# Altium schematic symbol library w4mlib.SchLib: 119 symbols
Pins are listed as number, name and electrical type; pins without a type are passive.

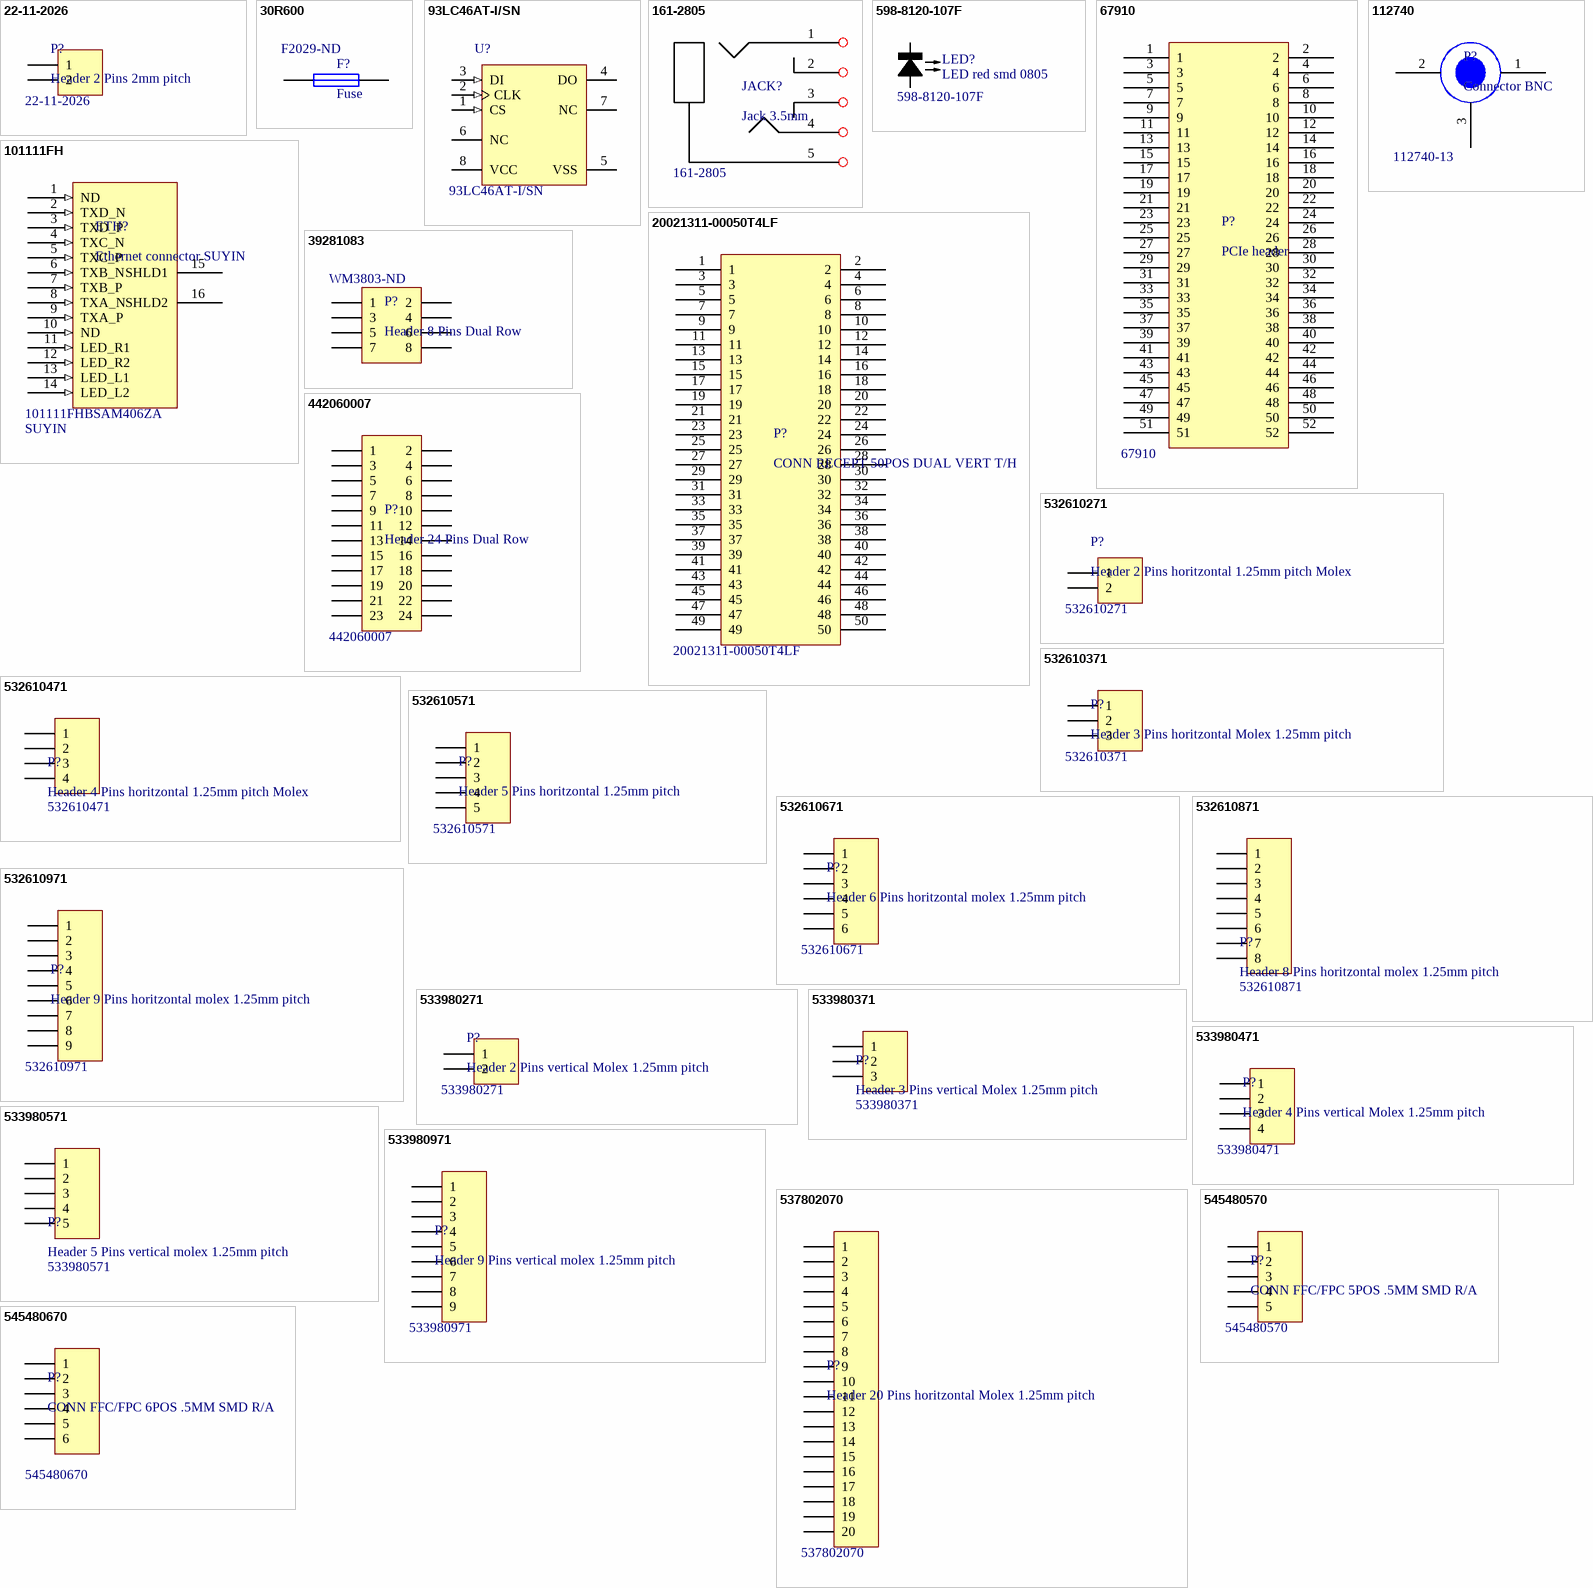
[diagram p0: symbols 22-11-2026 to 545480670]

## 22-11-2026
designator P?, comment Header 2 Pins 2mm pitch  Part Number: 22-11-2026
Supplier 1: Mouser; Supplier Part Number 1: 538-22-11-2026
footprint 22-11-2026 (header molex 2 pins)
pins: 1, 2

## 30R600
designator F?, comment Fuse  Supplier Part Number 1: F2029-ND
Supplier 1: Digi-Key
footprint Littelfuse 30R600 0.4
pins: 1, 2

## 93LC46AT-I/SN
designator U?  Part Number: 93LC46AT-I/SN
1K, 128x8-bit, 2.5V Microwire Serial EEPROM, 8-Pin SOIC 150mil, Industrial Temperature, Tape and Reel; Published: 29-Jan-2009; DatasheetVersion: revG, May-2008; PackageVersion: revAW, Oct-2008; PackageReference: SOIC-SN8; Publisher: Altium Limited; PackageDescription: 8-Lead Plastic Small Outline (SN) - Narrow, 3.90mm Body [SOIC]; Code_JEDEC: MS-012; Code_IPC: SOIC127P600-8; ComponentLink1Description: Manufacturer Link; ComponentLink1URL: http://www.microchip.com; ComponentLink2Description: Datasheet; ComponentLink2URL: http://ww1.microchip.com/downloads/en/DeviceDoc/21749G.pdf; ComponentLink3Description: Packaging Specification; ComponentLink3URL: http://ww1.microchip.com/downloads/en/PackagingSpec/00049AW.pdf; Supplier 1: Digi-Key; Supplier Part Number 1: 93LC46AT-I/SN-ND
footprint 93LC46AT-I/SN (SOIC, 8-Leads, Body 4.9x3.8mm, Pitch 1.27mm, IPC Medium Density)
pins: 1 CS (in), 2 CLK (in), 3 DI (in), 4 DO (hiz), 5 VSS (power), 6 NC, 7 NC, 8 VCC (power)

## 161-2805
designator JACK?, comment Jack 3.5mm  Part Number: 161-2805
Fabricant: Kobiconn; Supplier 1: Mouser; Supplier Part Number 1: 161-2805-E
footprint 161-2805-elfonanos (JACK 3.5mm pads reduits per elfonanos)
pins: 1, 2, 3, 4, 5

## 598-8120-107F
designator LED?, comment LED red smd 0805  Part Number: 598-8120-107F
Supplier 1: Digi-Key; Supplier Part Number 1: 350-2039-1-ND
footprint 598-8120-107F (LED red smd 0805)
pins: A, K

## 67910
designator P?, comment PCIe header  Part Number: 67910
Fabricant: Molex; Supplier 1: Mouser; Supplier Part Number 1: 538-67910-0002
footprint 67910 (header pci-e)
pins: 1, 2, 3, 4, 5, 6, 7, 8, 9, 10, 11, 12, 13, 14, 15, 16, 17, 18, 19, 20, 21, 22, 23, 24, 25, 26, 27, 28, 29, 30, 31, 32, 33, 34, 35, 36, 37, 38, 39, 40, 41, 42, 43, 44, 45, 46, 47, 48, 49, 50, 51, 52

## 101111FH
designator ETH?, comment Ethernet connector SUYIN  Part Number: 101111FHBSAM406ZA  Manufacturer 1: SUYIN
Fabricant: Suyin; Series: HBSAM406ZA
footprint 101111FH (Ethernet connector SUYIN)
pins: 1 ND (in), 2 TXD_N (in), 3 TXD_P (in), 4 TXC_N (in), 5 TXC_P (in), 6 TXB_N (in), 7 TXB_P (in), 8 TXA_N (in), 9 TXA_P (in), 10 ND (in), 11 LED_R1 (in), 12 LED_R2 (in), 13 LED_L1 (in), 14 LED_L2 (in), 15 SHLD1, 16 SHLD2

## 112740
designator P?, comment Connector BNC  Part Number: 112740-13
Manufacturer: Amphenol; Supplier 1: Digi-Key; Supplier Part Number 1: ACX1661-ND
footprint 112740 (Connector BNC)
pins: 1, 2, 3

## 20021311-00050T4LF
designator P?, comment CONN RECEPT 50POS DUAL VERT T/H  Part Number: 20021311-00050T4LF
Supplier 1: Digi-Key; Supplier Part Number 1: 609-3767-ND
footprint 20021311-00050T4LF (CONN RECEPT 50POS DUAL VERT T/H)
pins: 1, 2, 3, 4, 5, 6, 7, 8, 9, 10, 11, 12, 13, 14, 15, 16, 17, 18, 19, 20, 21, 22, 23, 24, 25, 26, 27, 28, 29, 30, 31, 32, 33, 34, 35, 36, 37, 38, 39, 40, 41, 42, 43, 44, 45, 46, 47, 48, 49, 50

## 39281083
designator P?, comment Header 8 Pins Dual Row  Supplier Part Number 1: WM3803-ND
Supplier 1: Digi-Key
footprint 39281083 (header molex 8 pins alimentacio base)
pins: 1, 2, 3, 4, 5, 6, 7, 8

## 442060007
designator P?, comment Header 24 Pins Dual Row  Part Number: 442060007
Supplier 1: Mouser; Supplier Part Number 1: 538-44206-0007
footprint 442060007 (header molex 24 pins alimentacio base)
pins: 1, 2, 3, 4, 5, 6, 7, 8, 9, 10, 11, 12, 13, 14, 15, 16, 17, 18, 19, 20, 21, 22, 23, 24

## 532610271
designator P?, comment Header 2 Pins horitzontal 1.25mm pitch Molex  Part Number: 532610271
Supplier 1: Digi-Key; Supplier Part Number 1: WM7620CT-ND
footprint 532610271 (header molex horitzontal 2 pins 1.25 pitch)
pins: 1, 2

## 532610371
designator P?, comment Header 3 Pins horitzontal Molex 1.25mm pitch  Part Number: 532610371
Supplier 1: Digi-Key; Supplier Part Number 1: WM7621CT-ND
footprint 532610371 (header molex horitzontal 3 pins 1.25mm pitch)
pins: 1, 2, 3

## 532610471
designator P?, comment Header 4 Pins horitzontal 1.25mm pitch Molex  Part Number: 532610471
footprint 532610471 (header molex horitzontal 4 pins 1.25mm pitch)
pins: 1, 2, 3, 4

## 532610571
designator P?, comment Header 5 Pins horitzontal 1.25mm pitch  Part Number: 532610571
Supplier 1: Digi-Key; Supplier Part Number 1: WM7623CT-ND
footprint 532610571 (header molex horitzontal 5 pins 1.25mm pitch)
pins: 1, 2, 3, 4, 5

## 532610671
designator P?, comment Header 6 Pins horitzontal molex 1.25mm pitch  Part Number: 532610671
Supplier 1: Digi-Key; Supplier Part Number 1: WM7624CT-ND
footprint 532610671 (header molex horitzontal 6 pins 1.25mm pitch)
pins: 1, 2, 3, 4, 5, 6

## 532610871
designator P?, comment Header 8 Pins horitzontal molex 1.25mm pitch  Part Number: 532610871
Supplier 1: Digi-Key; Supplier Part Number 1: WM7626CT-ND
footprint 532610871 (header molex horitzontal 8 pins 1.25 mm)
pins: 1, 2, 3, 4, 5, 6, 7, 8

## 532610971
designator P?, comment Header 9 Pins horitzontal molex 1.25mm pitch  Part Number: 532610971
Supplier 1: Digi-Key; Supplier Part Number 1: WM7627CT-ND
footprint 532610971 (header molex horitzontal 9 pins 1.25mm pitch)
pins: 1, 2, 3, 4, 5, 6, 7, 8, 9

## 533980271
designator P?, comment Header 2 Pins vertical Molex 1.25mm pitch  Part Number: 533980271
Supplier 1: Digi-Key; Supplier Part Number 1: WM7606CT-ND
footprint 533980271 (header molex 2 pins vertical 1.25mm pitch)
pins: 1, 2

## 533980371
designator P?, comment Header 3 Pins vertical Molex 1.25mm pitch  Part Number: 533980371
Supplier 1: Digi-Key; Supplier Part Number 1: WM7607CT-ND
footprint 533980371 (header molex 3 pins vertical 1.25mm pitch)
pins: 1, 2, 3

## 533980471
designator P?, comment Header 4 Pins vertical Molex 1.25mm pitch  Part Number: 533980471
Supplier 1: Digi-Key; Supplier Part Number 1: WM7608CT-ND
footprint 533980471 (header molex vertical 4 pins 1.25mm pitch)
pins: 1, 2, 3, 4

## 533980571
designator P?, comment Header 5 Pins vertical molex 1.25mm pitch  Part Number: 533980571
Supplier 1: Digi-Key; Supplier Part Number 1: WM7609CT-ND
footprint 533980571 (header molex vertical 5 pins 1.25mm pitch)
pins: 1, 2, 3, 4, 5

## 533980971
designator P?, comment Header 9 Pins vertical molex 1.25mm pitch  Part Number: 533980971
Supplier 1: Digi-Key; Supplier Part Number 1: WM7613CT-ND
footprint 533980971 (header molex vertical 9 pins 1.25mm pitch)
pins: 1, 2, 3, 4, 5, 6, 7, 8, 9

## 537802070
designator P?, comment Header 20 Pins horitzontal Molex 1.25mm pitch  Part Number: 537802070
Supplier 1: Digi-Key; Supplier Part Number 1: WM3429CT-ND
footprint 537802070 (header molex 20 pins 1.25mm pitch)
pins: 1, 2, 3, 4, 5, 6, 7, 8, 9, 10, 11, 12, 13, 14, 15, 16, 17, 18, 19, 20

## 545480570
designator P?, comment CONN FFC/FPC 5POS .5MM SMD R/A  Part Number: 545480570
Supplier 1: Digi-Key; Supplier Part Number 1: WM3937CT-ND
footprint 545480570 (CONN FFC/FPC 5POS .5MM SMD R/A)
pins: 1, 2, 3, 4, 5

## 545480670
designator P?, comment CONN FFC/FPC 6POS .5MM SMD R/A  Part Number: 545480670
Supplier 1: Digi-Key; Supplier Part Number 1: WM1544-ND
footprint 545480670 (CONN FFC/FPC 6POS .5MM SMD R/A)
pins: 1, 2, 3, 4, 5, 6

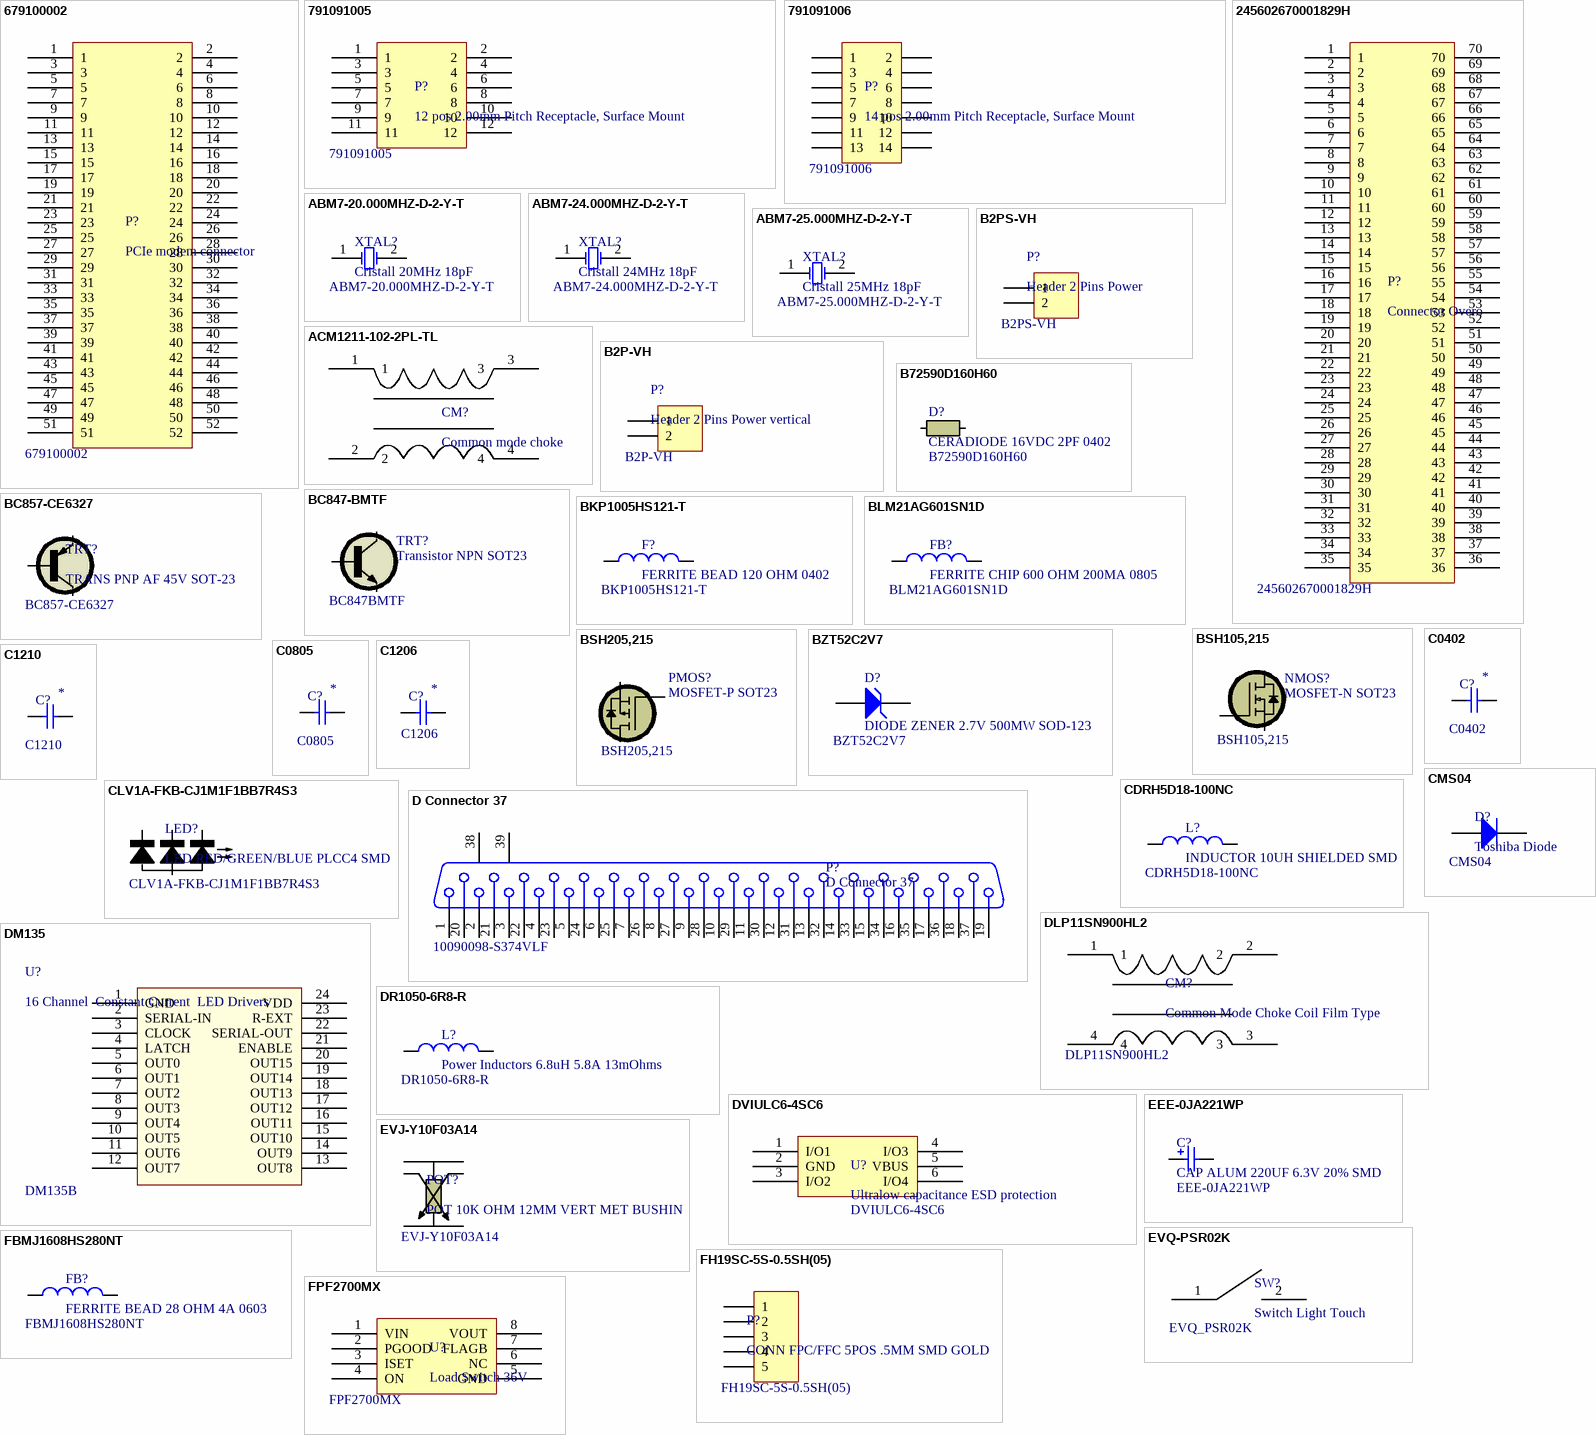
[diagram p1: symbols 679100002 to FPF2700MX]

## 679100002
designator P?, comment PCIe modem connector  Part Number: 679100002
Fabricant: Molex; Supplier 1: Mouser; Supplier Part Number 1: 538-67910-0002; Supplier 2: Digi-Key; Supplier Part Number 2: WM3294CT-ND
footprint 679100002 (connector per modems)
pins: 1, 2, 3, 4, 5, 6, 7, 8, 9, 10, 11, 12, 13, 14, 15, 16, 17, 18, 19, 20, 21, 22, 23, 24, 25, 26, 27, 28, 29, 30, 31, 32, 33, 34, 35, 36, 37, 38, 39, 40, 41, 42, 43, 44, 45, 46, 47, 48, 49, 50, 51, 52

## 791091005
designator P?, comment 12 pos 2.00mm Pitch Receptacle, Surface Mount  Part Number: 791091005
Supplier 1: Digi-Key; Supplier Part Number 1: WM18701-ND
footprint 791091005 (connector 12 molex)
pins: 1, 2, 3, 4, 5, 6, 7, 8, 9, 10, 11, 12

## 791091006
designator P?, comment 14 pos 2.00mm Pitch Receptacle, Surface Mount  Part Number: 791091006
Supplier 1: Digi-Key; Supplier Part Number 1: WM18702-ND
footprint 79109-1006 (header molex 14 pins 2mm pitch)
pins: 1, 2, 3, 4, 5, 6, 7, 8, 9, 10, 11, 12, 13, 14

## 245602670001829H
designator P?, comment Connector Overo  Part Number: 245602670001829H
Supplier 1: Mouser; Supplier Part Number 1: N/A
footprint 245602670001829H (Connector Overo Gumstix)
pins: 1, 2, 3, 4, 5, 6, 7, 8, 9, 10, 11, 12, 13, 14, 15, 16, 17, 18, 19, 20, 21, 22, 23, 24, 25, 26, 27, 28, 29, 30, 31, 32, 33, 34, 35, 36, 37, 38, 39, 40, 41, 42, 43, 44, 45, 46, 47, 48, 49, 50, 51, 52, 53, 54, 55, 56, 57, 58, 59, 60, 61, 62, 63, 64, 65, 66, 67, 68, 69, 70

## ABM7-20.000MHZ-D-2-Y-T
designator XTAL?, comment Cristall 20MHz 18pF  Part Number: ABM7-20.000MHZ-D-2-Y-T
Supplier 1: Digi-Key; Supplier Part Number 1: 535-9843-1-ND
footprint AMB7-2XM-D-2-Y-T (cristall 2X MHz)
pins: 1 OSC1, 2 OSC2

## ABM7-24.000MHZ-D-2-Y-T
designator XTAL?, comment Cristall 24MHz 18pF  Part Number: ABM7-24.000MHZ-D-2-Y-T
Supplier 1: Digi-Key; Supplier Part Number 1: 535-9845-1-ND
footprint AMB7-2XM-D-2-Y-T (cristall 2X MHz)
pins: 1 OSC1, 2 OSC2

## ABM7-25.000MHZ-D-2-Y-T
designator XTAL?, comment Cristall 25MHz 18pF  Part Number: ABM7-25.000MHZ-D-2-Y-T
Supplier 1: Digi-Key; Supplier Part Number 1: 535-9847-1-ND
footprint AMB7-2XM-D-2-Y-T (cristall 2X MHz)
pins: 1 OSC1, 2 OSC2

## ACM1211-102-2PL-TL
designator CM?, comment Common mode choke
Part Number: ACM1211-102-2PL-TL; Supplier 1: Digi-Key; Supplier Part Number 1: 445-2213-1-ND
footprint ACM1211-102-2PL-TL (common mode choke, 4-Pins, Body 12.0x11.0mm (max), Pitch 5.20mm, IPC Medium Density)
pins: 1, 2, 3, 4

## B2P-VH
designator P?, comment Header 2 Pins Power vertical  Part Number: B2P-VH
Supplier 1: Digi-Key; Supplier Part Number 1: 455-1639-ND
footprint B2P-VH (connector jst power vertical)
pins: 1, 2

## B2PS-VH
designator P?, comment Header 2 Pins Power  Part Number: B2PS-VH
Supplier 1: Digi-Key; Supplier Part Number 1: 455-1648-ND
footprint B2PS-VH (header jst power horitzontal)
pins: 1, 2

## B72590D160H60
designator D?, comment CERADIODE 16VDC 2PF 0402  Part Number: B72590D160H60
Supplier 1: Digi-Key; Supplier Part Number 1: 495-3419-1-ND
footprint 0402 (Encapsulat 0402)
pins: 1, 2

## BC847-BMTF
designator TRT?, comment Transistor NPN SOT23  Part Number: BC847BMTF
Supplier 1: Digi-Key; Supplier Part Number 1: BC847BMTFCT-ND
footprint TRT_SOT23
pins: B, C, E

## BC857-CE6327
designator TRT?, comment TRANS PNP AF 45V SOT-23  Part Number: BC857-CE6327
Supplier 1: Digi-Key; Supplier Part Number 1: BC857CINCT-ND
footprint TRT_SOT23 (Transistor BJT SOT23 (BC847, MMBT5401))
pins: B, C, E

## BKP1005HS121-T
designator F?, comment FERRITE BEAD 120 OHM 0402  Part Number: BKP1005HS121-T
Supplier 1: Digi-Key; Supplier Part Number 1: 587-1921-1-ND
footprint 0402 (Encapsulat 0402)
pins: 1, 2

## BLM21AG601SN1D
designator FB?, comment FERRITE CHIP 600 OHM 200MA 0805  Part Number: BLM21AG601SN1D
Supplier 1: Digi-Key; Supplier Part Number 1: 490-1040-1-ND
footprint L0805 (Chip Inductor, 2-Leads, Body 2.0x1.3mm, IPC Medium Density)
pins: 1, 2

## BSH105,215
designator NMOS?, comment MOSFET-N SOT23  Part Number: BSH105,215
Supplier 1: Digi-Key; Supplier Part Number 1: 568-6215-1-ND
footprint MOSFET_SOT23
pins: D, G, S

## BSH205,215
designator PMOS?, comment MOSFET-P SOT23  Part Number: BSH205,215
Supplier 1: Digi-Key; Supplier Part Number 1: 568-8028-1-ND
footprint BSH105 (MOSFET SOT23 (N,P))
pins: D, G, S

## BZT52C2V7
designator D?, comment DIODE ZENER 2.7V 500MW SOD-123  Part Number: BZT52C2V7
Published: 8-Jun-2000; LatestRevisionDate: 17-Jul-2002; LatestRevisionNote: Re-released for DXP Platform.; DatasheetDocument: REV. L-2; PackageReference: SOD-123; Publisher: Altium Limited; ComponentLink1Description: Manufacturer Link; ComponentLink1URL: http://www.vishay.com/; Supplier 1: Digi-Key; Supplier Part Number 1: BZT52C2V7-FDICT-ND
simulation model BZT52C2V7 (SUBCKT)
footprint BZT52C2V7 (SOD-123; 2 Leads; Body 2.7 x 1.6 mm, (LxW))
pins: A, K

## C0402
designator C?, comment Part Number: C0402  (hidden comment: Capacitor 0402)
Value: *
footprint C0402 (Condensador 0402)
pins: 1, 2

## C0805
designator C?, comment Part Number: C0805  (hidden comment: Capacitor 0805)
Value: *
footprint C0805 (Chip Capacitor, Body 2.0x1.3mm, IPC High Density)
pins: 1, 2

## C1206
designator C?, comment Part Number: C1206  (hidden comment: Capacitor 1206)
Value: *
footprint C1206 (Capacitor 1206)
pins: 1, 2

## C1210
designator C?, comment Part Number: C1210  (hidden comment: Capacitor 1210)
Value: *
footprint C1210 (Chip Inductor, 2-Leads, Body 3,2x2,5mm, IPC Medium Density)
pins: 1, 2

## CDRH5D18-100NC
designator L?, comment INDUCTOR 10UH SHIELDED SMD  Part Number: CDRH5D18-100NC
Supplier 1: Digi-Key; Supplier Part Number 1: 308-1346-1-ND
footprint CDRH5D18-100NC (INDUCTOR 10UH SHIELDED SMD)
pins: 1, 2

## CLV1A-FKB-CJ1M1F1BB7R4S3
designator LED?, comment LED RED/GREEN/BLUE PLCC4 SMD  Part Number: CLV1A-FKB-CJ1M1F1BB7R4S3
Supplier 1: Digi-Key; Supplier Part Number 1: CLV1A-FKB-CJ1M1F1BB7R4S3CT-ND
footprint CLV1A-FKB-CJ1M1F1BB7R4S3 (LED RED/GREEN/BLUE PLCC4 SMD)
pins: A, K1, K2, K3

## CMS04
designator D?, comment Toshiba Diode  Part Number: CMS04
Supplier 1: Mouser; Supplier Part Number 1: 757-CMS04TE12L,Q,M
footprint CMS04 (TOSHIBA Diode CMS04)
pins: 1 A, 2 K

## D Connector 37
designator P?  Part Number: 10090098-S374VLF
Receptacle Assembly, 37 Position; PackageDocument: U; Positions: 25; Published: 15-Jun-2001; LatestRevisionDate: 17-Jul-2002; LatestRevisionNote: Re-released for DXP Platform.; DatasheetDocument: 19-Mar-1999; PackageReference: 787202; Publisher: Altium Limited; Orientation: Right Angle; Gender: Receptacle; Supplier 1: Digi-Key; Supplier Part Number 1: 609-4001-ND
footprint SubD-37 (10090098-S374VLF FCI connector)
signal-integrity model Connector
pins: 1, 2, 3, 4, 5, 6, 7, 8, 9, 10, 11, 12, 13, 14, 15, 16, 17, 18, 19, 20, 21, 22, 23, 24, 25, 26, 27, 28, 29, 30, 31, 32, 33, 34, 35, 36, 37, 38, 39

## DLP11SN900HL2
designator CM?, comment Common Mode Choke Coil Film Type  Part Number: DLP11SN900HL2
Supplier 1: Digi-Key; Supplier Part Number 1: 490-5143-1-ND
footprint DLP11SN900HL2 (Common Mode Choke Coil Film Type)
pins: 1, 2, 3, 4

## DM135
designator U?, comment 16 Channel  Constant Current  LED Drivers  Part Number: DM135B
Manufacturer: Silicon Touch Technology
footprint SSOP24 (SSOP24 LED Driver)
pins: 1 GND, 2 SERIAL-IN, 3 CLOCK, 4 LATCH, 5 OUT0, 6 OUT1, 7 OUT2, 8 OUT3, 9 OUT4, 10 OUT5, 11 OUT6, 12 OUT7, 13 OUT8, 14 OUT9, 15 OUT10, 16 OUT11, 17 OUT12, 18 OUT13, 19 OUT14, 20 OUT15, 21 ENABLE, 22 SERIAL-OUT, 23 R-EXT, 24 VDD

## DR1050-6R8-R
designator L?, comment Power Inductors 6.8uH 5.8A 13mOhms  Part Number: DR1050-6R8-R
Supplier 1: Mouser; Supplier Part Number 1: 704-DR1050-6R8-R
footprint DR1050-6R8-R (Inductor Power 5.45 A 16,50 mohms)
pins: 1, 2

## DVIULC6-4SC6
designator U?, comment Ultralow capacitance ESD protection  Part Number: DVIULC6-4SC6
Supplier 1: Mouser; Supplier Part Number 1: 511-DVIULC6-4SC6
footprint SOT23-6L (SOT23, 6-Leads, Body 3.0x3.0mm (max), Pitch 0.95mm, IPC Medium Density)
pins: 1 I/O1, 2 GND, 3 I/O2, 4 I/O3, 5 VBUS, 6 I/O4

## EEE-0JA221WP
designator C?, comment CAP ALUM 220UF 6.3V 20% SMD  Part Number: EEE-0JA221WP
Supplier 1: Digi-Key; Supplier Part Number 1: PCE3858CT-ND
footprint EEE-0JA221WP (Molded Capacitor, 2-Leads, Body 6.6x6.6mm, IPC Medium Density)
pins: + 1, - 2

## EVJ-Y10F03A14
designator POT?, comment POT 10K OHM 12MM VERT MET BUSHIN  Part Number: EVJ-Y10F03A14
Supplier 1: Digi-Key; Supplier Part Number 1: P2G1103-ND
footprint EVJ-Y10F03A14 (POT 10K OHM 12MM VERT MET BUSHIN)
pins: 1, 2, 3, 4, 5, 6

## EVQ-PSR02K
designator SW?, comment Switch Light Touch  Part Number: EVQ_PSR02K
Supplier 1: Digi-Key; Supplier Part Number 1: P12323SCT-ND
footprint EVQ-PSR02K (Light Touch Switches SMD)
pins: 1, 2

## FBMJ1608HS280NT
designator FB?, comment FERRITE BEAD 28 OHM 4A 0603  Part Number: FBMJ1608HS280NT
Supplier 1: Digi-Key; Supplier Part Number 1: 587-1763-6-ND
footprint 0603 (Chip Capacitor, Body 1.6x0.8mm, IPC High Density)
pins: 1, 2

## FH19SC-5S-0.5SH(05)
designator P?, comment CONN FPC/FFC 5POS .5MM SMD GOLD  Part Number: FH19SC-5S-0.5SH(05)
Supplier 1: Digi-Key; Supplier Part Number 1: HFN505DKR-ND
footprint FH19SC-5S-0.5SH(05) (CONN FPC/FFC 5POS .5MM SMD GOLD)
pins: 1, 2, 3, 4, 5

## FPF2700MX
designator U?, comment Load Switch 36V  Part Number: FPF2700MX
Supplier 1: Mouser; Supplier Part Number 1: 512-FPF2700MX
footprint FPF2700MX (SOIC, 8-Leads, Body 5.0x4.0mm (max), Pitch 1.27mm, IPC Medium Density)
pins: 1 VIN, 2 PGOOD, 3 ISET, 4 ON, 5 GND, 6 NC, 7 FLAGB, 8 VOUT

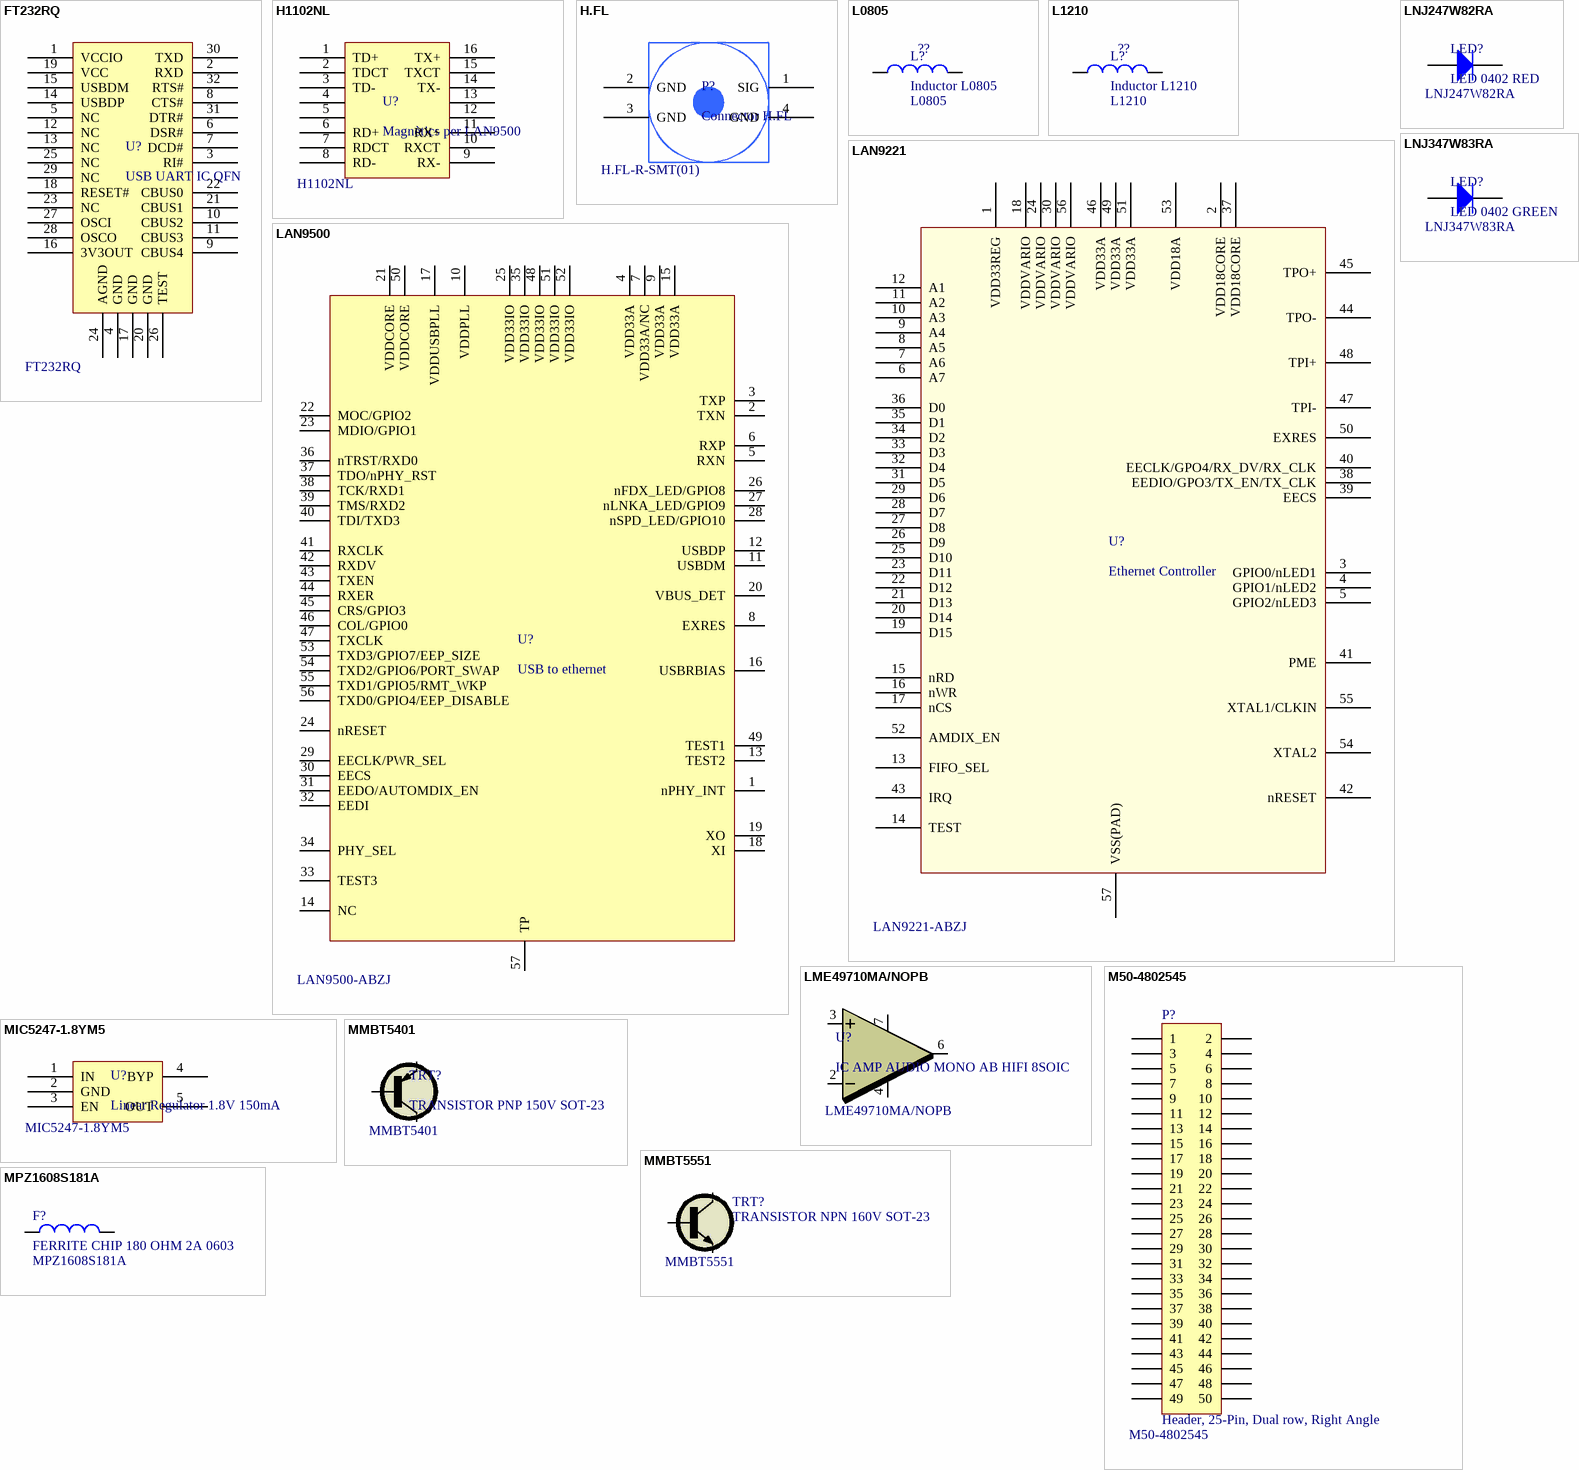
[diagram p2: symbols FT232RQ to MPZ1608S181A]

## FT232RQ
designator U?, comment USB UART IC QFN  Part Number: FT232RQ
Supplier 1: Digi-Key; Supplier Part Number 1: 768-1008-1-ND
footprint QFN50P500X500X100-32N (QFN, 32-Leads, Body 5.1x5.1mm (max), Pitch 0.50mm, IPC Medium Density)
pins: 1 VCCIO, 2 RXD, 3 RI#, 4 GND, 5 NC, 6 DSR#, 7 DCD#, 8 CTS#, 9 CBUS4, 10 CBUS2, 11 CBUS3, 12 NC, 13 NC, 14 USBDP, 15 USBDM, 16 3V3OUT, 17 GND, 18 RESET#, 19 VCC, 20 GND, 21 CBUS1, 22 CBUS0, 23 NC, 24 AGND, 25 NC, 26 TEST, 27 OSCI, 28 OSCO, 29 NC, 30 TXD, 31 DTR#, 32 RTS#

## H1102NL
designator U?, comment Magnètics per LAN9500  Part Number: H1102NL
Fabricant: Pulse; Supplier 1: Digi-Key; Supplier Part Number 1: 553-1323-ND
footprint H1102NL (Magnètics per LAN9500)
pins: 1 TD+, 2 TDCT, 3 TD-, 4, 5, 6 RD+, 7 RDCT, 8 RD-, 9 RX-, 10 RXCT, 11 RX+, 12, 13, 14 TX-, 15 TXCT, 16 TX+

## H.FL
designator P?, comment Connector H.FL  Part Number: H.FL-R-SMT(01)
Supplier 1: Mouser; Supplier Part Number 1: 798-HFLRSMT01
footprint H.FL (Connector H.FL)
pins: 1 SIG, 2 GND, 3 GND, 4 GND

## L0805
designator L?, comment Inductor L0805  value ??  Part Number: L0805
footprint L0805 (Chip Inductor, 2-Leads, Body 2.0x1.3mm, IPC Medium Density)
pins: 1, 2

## L1210
designator L?, comment Inductor L1210  value ??  Part Number: L1210
footprint L1210 (Chip Inductor, 2-Leads, Body 3,2x2,5mm, IPC Medium Density)
pins: 1, 2

## LAN9221
designator U?, comment Ethernet Controller  Part Number: LAN9221-ABZJ
Supplier 1: Digi-Key; Supplier Part Number 1: 638-1073-ND
footprint QFN-56 LAN9221 (QFN, 56-Leads, Body 8.1x8.1mm (max), Pitch 0.50mm, IPC Medium Density)
pins: 1 VDD33REG, 2 VDD18CORE, 3 GPIO0/nLED1, 4 GPIO1/nLED2, 5 GPIO2/nLED3, 6 A7, 7 A6, 8 A5, 9 A4, 10 A3, 11 A2, 12 A1, 13 FIFO_SEL, 14 TEST, 15 nRD, 16 nWR, 17 nCS, 18 VDDVARIO, 19 D15, 20 D14, 21 D13, 22 D12, 23 D11, 24 VDDVARIO, 25 D10, 26 D9, 27 D8, 28 D7, 29 D6, 30 VDDVARIO, 31 D5, 32 D4, 33 D3, 34 D2, 35 D1, 36 D0, 37 VDD18CORE, 38 EEDIO/GPO3/TX_EN/TX_CLK, 39 EECS, 40 EECLK/GPO4/RX_DV/RX_CLK, 41 PME, 42 nRESET, 43 IRQ, 44 TPO-, 45 TPO+, 46 VDD33A, 47 TPI-, 48 TPI+, 49 VDD33A, 50 EXRES, 51 VDD33A, 52 AMDIX_EN, 53 VDD18A, 54 XTAL2, 55 XTAL1/CLKIN, 56 VDDVARIO, 57 VSS(PAD)

## LAN9500
designator U?, comment USB to ethernet  Part Number: LAN9500-ABZJ
Supplier 1: Digi-Key; Supplier Part Number 1: 638-1071-ND
footprint QFN56_50P800X800X100 (QFN, 56-Leads, Body 8.1x8.1mm (max), Pitch 0.50mm, IPC Medium Density)
pins: 1 nPHY_INT, 2 TXN, 3 TXP, 4 VDD33A, 5 RXN, 6 RXP, 7 VDD33A/NC, 8 EXRES, 9 VDD33A, 10 VDDPLL, 11 USBDM, 12 USBDP, 13 TEST2, 14 NC, 15 VDD33A, 16 USBRBIAS, 17 VDDUSBPLL, 18 XI, 19 XO, 20 VBUS_DET, 21 VDDCORE, 22 MOC/GPIO2, 23 MDIO/GPIO1, 24 nRESET, 25 VDD33IO, 26 nFDX_LED/GPIO8, 27 nLNKA_LED/GPIO9, 28 nSPD_LED/GPIO10, 29 EECLK/PWR_SEL, 30 EECS, 31 EEDO/AUTOMDIX_EN, 32 EEDI, 33 TEST3, 34 PHY_SEL, 35 VDD33IO, 36 nTRST/RXD0, 37 TDO/nPHY_RST, 38 TCK/RXD1, 39 TMS/RXD2, 40 TDI/TXD3, 41 RXCLK, 42 RXDV, 43 TXEN, 44 RXER, 45 CRS/GPIO3, 46 COL/GPIO0, 47 TXCLK, 48 VDD33IO, 49 TEST1, 50 VDDCORE, 51 VDD33IO, 52 VDD33IO, 53 TXD3/GPIO7/EEP_SIZE, 54 TXD2/GPIO6/PORT_SWAP, 55 TXD1/GPIO5/RMT_WKP, 56 TXD0/GPIO4/EEP_DISABLE, 57 TP

## LME49710MA/NOPB
designator U?, comment IC AMP AUDIO MONO AB HIFI 8SOIC  Part Number: LME49710MA/NOPB
Supplier 1: Digi-Key; Supplier Part Number 1: LME49710MA-ND
footprint SOIC8 (SOIC_8)
pins: 2, 3, 4, 6, 7

## LNJ247W82RA
designator LED?, comment LED 0402 RED  Part Number: LNJ247W82RA
Supplier 1: Mouser; Supplier Part Number 1: 667-LNJ247W82RA
footprint LED0402 (LED 0402)
pins: A, K

## LNJ347W83RA
designator LED?, comment LED 0402 GREEN
Supplier 1: Mouser; Supplier Part Number 1: 667-LNJ347W83RA
footprint LED0402 (LED 0402)
pins: A, K

## M50-4802545
designator P?, comment Header, 25-Pin, Dual row, Right Angle  Part Number: M50-4802545
Supplier 1: Digi-Key; Supplier Part Number 1: 952-1686-ND
footprint M50-4802545 (Header 25 pins 1.27mm pitch Right Angle)
pins: 1, 2, 3, 4, 5, 6, 7, 8, 9, 10, 11, 12, 13, 14, 15, 16, 17, 18, 19, 20, 21, 22, 23, 24, 25, 26, 27, 28, 29, 30, 31, 32, 33, 34, 35, 36, 37, 38, 39, 40, 41, 42, 43, 44, 45, 46, 47, 48, 49, 50

## MIC5247-1.8YM5
designator U?, comment Linear Regulator 1.8V 150mA  Part Number: MIC5247-1.8YM5
Supplier 1: Digi-Key; Supplier Part Number 1: 576-1288-1-ND
footprint SOT-23-5
pins: 1 IN, 2 GND, 3 EN, 4 BYP, 5 OUT

## MMBT5401
designator TRT?, comment TRANSISTOR PNP 150V SOT-23  Part Number: MMBT5401
Supplier 1: Digi-Key; Supplier Part Number 1: MMBT5401FSCT-ND
footprint TRT_SOT23 (Transistor BJT SOT23 (BC847, MMBT5401))
pins: B, C, E

## MMBT5551
designator TRT?, comment TRANSISTOR NPN 160V SOT-23  Part Number: MMBT5551
Supplier 1: Digi-Key; Supplier Part Number 1: MMBT5551FSCT-ND
footprint TRT_SOT23
pins: B, C, E

## MPZ1608S181A
designator F?, comment FERRITE CHIP 180 OHM 2A 0603  Part Number: MPZ1608S181A
Supplier 1: Digi-Key; Supplier Part Number 1: 445-5220-1-ND
footprint 0603 (Chip Capacitor, Body 1.6x0.8mm, IPC High Density)
pins: 1, 2

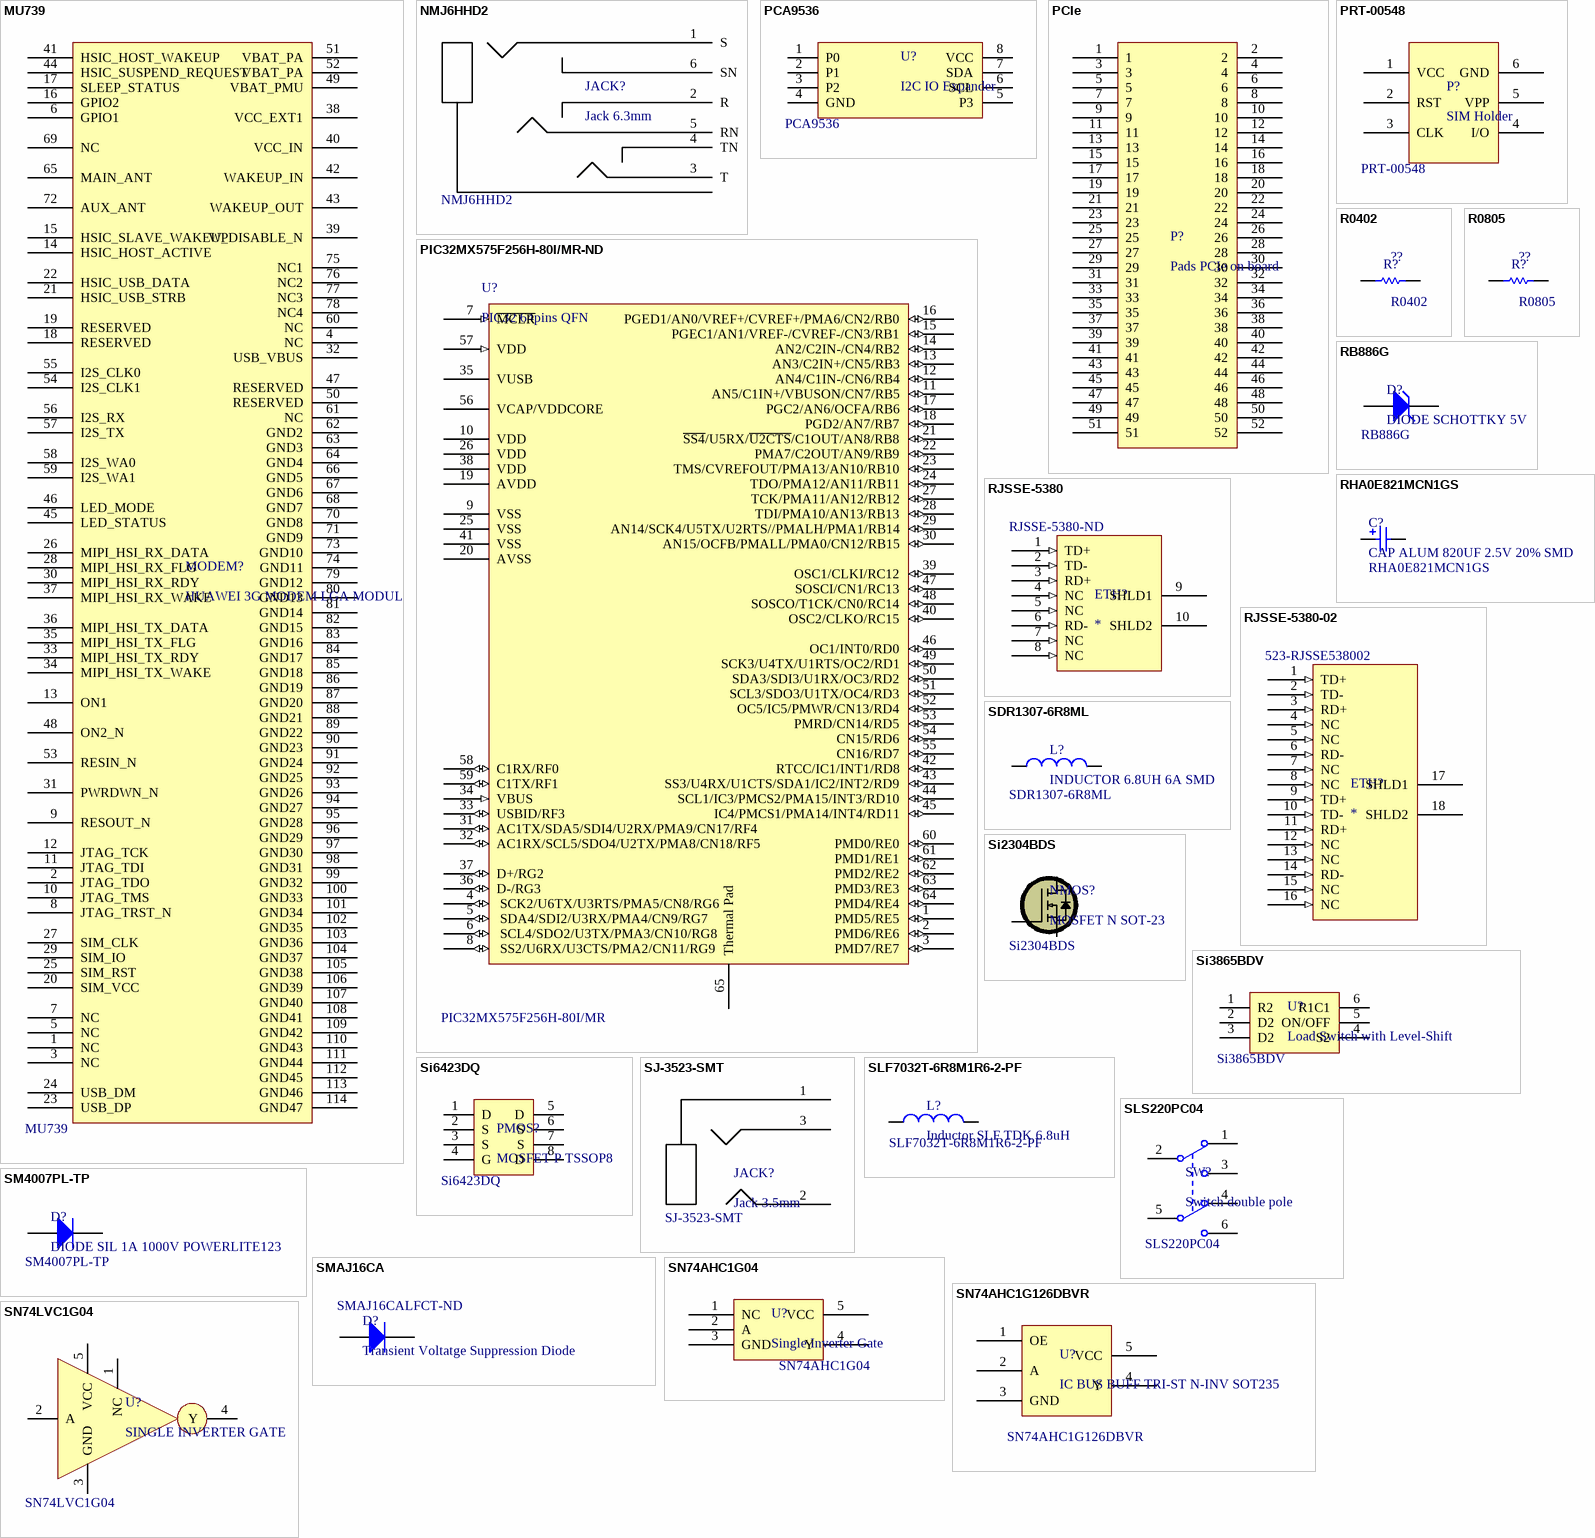
[diagram p3: symbols MU739 to SN74LVC1G04]

## MU739
designator MODEM?, comment HUAWEI 3G MODEM LGA MODULE  Part Number: MU739
footprint MU739 (HUAWEI MODEM LGA MODULE)
pins: 1 NC, 2 JTAG_TDO, 3 NC, 4 NC, 5 NC, 6 GPIO1, 7 NC, 8 JTAG_TRST_N, 9 RESOUT_N, 10 JTAG_TMS, 11 JTAG_TDI, 12 JTAG_TCK, 13 ON1, 14 HSIC_HOST_ACTIVE, 15 HSIC_SLAVE_WAKEUP, 16 GPIO2, 17 SLEEP_STATUS, 18 RESERVED, 19 RESERVED, 20 SIM_VCC, 21 HSIC_USB_STRB, 22 HSIC_USB_DATA, 23 USB_DP, 24 USB_DM, 25 SIM_RST, 26 MIPI_HSI_RX_DATA, 27 SIM_CLK, 28 MIPI_HSI_RX_FLG, 29 SIM_IO, 30 MIPI_HSI_RX_RDY, 31 PWRDWN_N, 32 USB_VBUS, 33 MIPI_HSI_TX_RDY, 34 MIPI_HSI_TX_WAKE, 35 MIPI_HSI_TX_FLG, 36 MIPI_HSI_TX_DATA, 37 MIPI_HSI_RX_WAKE, 38 VCC_EXT1, 39 W_DISABLE_N, 40 VCC_IN, 41 HSIC_HOST_WAKEUP, 42 WAKEUP_IN, 43 WAKEUP_OUT, 44 HSIC_SUSPEND_REQUEST, 45 LED_STATUS, 46 LED_MODE, 47 RESERVED, 48 ON2_N, 49 VBAT_PMU, 50 RESERVED, 51 VBAT_PA, 52 VBAT_PA, 53 RESIN_N, 54 I2S_CLK1, 55 I2S_CLK0, 56 I2S_RX, 57 I2S_TX, 58 I2S_WA0, 59 I2S_WA1, 60 NC, 61 NC, 62 GND2, 63 GND3, 64 GND4, 65 MAIN_ANT, 66 GND5, 67 GND6, 68 GND7, 69 NC, 70 GND8, 71 GND9, 72 AUX_ANT, 73 GND10, 74 GND11, 75 NC1, 76 NC2, 77 NC3, 78 NC4, 79 GND12, 80 GND13, 81 GND14, 82 GND15, 83 GND16, 84 GND17, 85 GND18, 86 GND19, 87 GND20, 88 GND21, 89 GND22, 90 GND23, 91 GND24, 92 GND25, 93 GND26, 94 GND27, 95 GND28, 96 GND29, 97 GND30, 98 GND31, 99 GND32, 100 GND33, 101 GND34, 102 GND35, 103 GND36, 104 GND37, 105 GND38, 106 GND39, 107 GND40, 108 GND41, 109 GND42, 110 GND43, 111 GND44, 112 GND45, 113 GND46, 114 GND47

## NMJ6HHD2
designator JACK?, comment Jack 6.3mm  Part Number: NMJ6HHD2
Supplier 1: Mouser; Supplier Part Number 1: 550-25382
footprint NMJ6HHD2 (Jack 6.3mm)
pins: 1 S, 2 R, 3 T, 4 TN, 5 RN, 6 SN

## PCA9536
designator U?, comment I2C IO Expander  Part Number: PCA9536
Supplier 1: Digi-Key; Supplier Part Number 1: 568-1836-1-ND
footprint TSOP65P490X110-8N (TSOP, 8-Leads, Body 3.1x3.1mm (max), Pitch 0.65mm, IPC Medium Density)
pins: 1 P0, 2 P1, 3 P2, 4 GND, 5 P3, 6 SCL, 7 SDA, 8 VCC

## PCIe
designator P?, comment Pads PCIe on board
footprint pci-e (pads pci-e per sims)
pins: 1, 2, 3, 4, 5, 6, 7, 8, 9, 10, 11, 12, 13, 14, 15, 16, 17, 18, 19, 20, 21, 22, 23, 24, 25, 26, 27, 28, 29, 30, 31, 32, 33, 34, 35, 36, 37, 38, 39, 40, 41, 42, 43, 44, 45, 46, 47, 48, 49, 50, 51, 52

## PIC32MX575F256H-80I/MR-ND
designator U?, comment PIC32 64pins QFN  Part Number: PIC32MX575F256H-80I/MR
Supplier 1: Digi-Key; Supplier Part Number 1: PIC32MX575F256H-80I/MR-ND
footprint PIC32MX575F256H-80I/MR-ND (PIC32 QFN64)
pins: 1 PMD5/RE5 (io), 2 PMD6/RE6 (io), 3 PMD7/RE7 (io), 4  SCK2/U6TX/U3RTS/PMA5/CN8/RG6 (io), 5  SDA4/SDI2/U3RX/PMA4/CN9/RG7 (io), 6  SCL4/SDO2/U3TX/PMA3/CN10/RG8 (io), 7 ~{MCLR} (in), 8  SS2/U6RX/U3CTS/PMA2/CN11/RG9 (io), 9 VSS (power), 10 VDD (power), 11  AN5/C1IN+/VBUSON/CN7/RB5 (io), 12  AN4/C1IN-/CN6/RB4 (io), 13  AN3/C2IN+/CN5/RB3 (io), 14  AN2/C2IN-/CN4/RB2 (io), 15  PGEC1/AN1/VREF-/CVREF-/CN3/RB1 (io), 16  PGED1/AN0/VREF+/CVREF+/PMA6/CN2/RB0 (io), 17 PGC2/AN6/OCFA/RB6 (io), 18 PGD2/AN7/RB7 (io), 19 AVDD (power), 20 AVSS (power), 21 ~{SS4}/U5RX/~{U2CTS}/C1OUT/AN8/RB8 (io), 22 PMA7/C2OUT/AN9/RB9 (io), 23 TMS/CVREFOUT/PMA13/AN10/RB10 (io), 24 TDO/PMA12/AN11/RB11 (io), 25 VSS (power), 26 VDD (power), 27 TCK/PMA11/AN12/RB12 (io), 28 TDI/PMA10/AN13/RB13 (io), 29 AN14/SCK4/U5TX/U2RTS//PMALH/PMA1/RB14 (io), 30  AN15/OCFB/PMALL/PMA0/CN12/RB15 (io), 31 AC1TX/SDA5/SDI4/U2RX/PMA9/CN17/RF4 (io), 32 AC1RX/SCL5/SDO4/U2TX/PMA8/CN18/RF5 (io), 33 USBID/RF3 (io), 34 VBUS (in), 35 VUSB (power), 36 D-/RG3 (io), 37 D+/RG2 (io), 38 VDD (power), 39 OSC1/CLKI/RC12 (io), 40 OSC2/CLKO/RC15 (io), 41 VSS (power), 42 RTCC/IC1/INT1/RD8 (io), 43 SS3/U4RX/U1CTS/SDA1/IC2/INT2/RD9 (io), 44 SCL1/IC3/PMCS2/PMA15/INT3/RD10 (io), 45 IC4/PMCS1/PMA14/INT4/RD11 (io), 46 OC1/INT0/RD0 (io), 47 SOSCI/CN1/RC13 (io), 48 SOSCO/T1CK/CN0/RC14 (io), 49 SCK3/U4TX/U1RTS/OC2/RD1 (io), 50 SDA3/SDI3/U1RX/OC3/RD2 (io), 51 SCL3/SDO3/U1TX/OC4/RD3 (io), 52 OC5/IC5/PMWR/CN13/RD4 (io), 53 PMRD/CN14/RD5 (io), 54 CN15/RD6 (io), 55 CN16/RD7 (io), 56 VCAP/VDDCORE (power), 57 VDD (in), 58 C1RX/RF0 (io), 59 C1TX/RF1 (io), 60 PMD0/RE0 (io), 61 PMD1/RE1 (io), 62 PMD2/RE2 (io), 63 PMD3/RE3 (io), 64 PMD4/RE4 (io), 65 Thermal Pad

## PRT-00548
designator P?, comment SIM Holder  Part Number: PRT-00548
Fabricant: 4UCON; Manufacturer: 4UCON; Supplier1: Sparkfun
footprint PRT-00548 (SIM Holder SPARKFUN)
pins: 1 VCC, 2 RST, 3 CLK, 4 I/O, 5 VPP, 6 GND

## R0402
designator R?, comment value ??  Part Number: R0402  (hidden comment: Resistor 0402)
footprint R0402 (Resistencia 0402)
pins: 1, 2

## R0805
designator R?, comment value ??  Part Number: R0805  (hidden comment: Resistor 0805)
footprint R0805 (resistencia 0805)
pins: 1, 2

## RB886G
designator D?, comment DIODE SCHOTTKY 5V  Part Number: RB886G
Supplier 1: Digi-Key; Supplier Part Number 1: RB886GT2RTR-ND
footprint RB886G (Schottky barrier diode)
pins: A, K

## RHA0E821MCN1GS
designator C?, comment CAP ALUM 820UF 2.5V 20% SMD  Part Number: RHA0E821MCN1GS
Supplier 1: Digi-Key; Supplier Part Number 1: 493-3760-6-ND
footprint RHA0E821MCN1GS (CAP ALUM 820UF 2.5V 20% SMD)
pins: + 1, - 2

## RJSSE-5380
designator ETH?  Supplier Part Number 1: RJSSE-5380-ND
Ethernet connector; Fabricant: Amphenol; Supplier 1: Digi-Key
footprint RJSSE5380 (Connector RJ45)
pins: 1 TD+ (in), 2 TD- (in), 3 RD+ (in), 4 NC (in), 5 NC (in), 6 RD- (in), 7 NC (in), 8 NC (in), 9 SHLD1, 10 SHLD2

## RJSSE-5380-02
designator ETH?  Supplier Part Number 1: 523-RJSSE538002
Ethernet connector; Supplier 1: Mouser
footprint RJSSE5380-02 (Connector RJ45 doble)
pins: 1 TD+ (in), 2 TD- (in), 3 RD+ (in), 4 NC (in), 5 NC (in), 6 RD- (in), 7 NC (in), 8 NC (in), 9 TD+ (in), 10 TD- (in), 11 RD+ (in), 12 NC (in), 13 NC (in), 14 RD- (in), 15 NC (in), 16 NC (in), 17 SHLD1, 18 SHLD2

## SDR1307-6R8ML
designator L?, comment INDUCTOR 6.8UH 6A SMD  Part Number: SDR1307-6R8ML
Supplier 1: Digi-Key; Supplier Part Number 1: SDR1307-6R8MLCT-ND
footprint SDR1307-6R8ML (INDUCTOR 6.8UH 6A SMD)
pins: 1, 2

## Si2304BDS
designator NMOS?, comment MOSFET N SOT-23  Part Number: Si2304BDS
Supplier 1: Digi-Key; Supplier Part Number 1: SI2304BDS-T1-E3CT-ND
footprint SOT23 (MOSFET SOT23 (N,P))
pins: D, G, S

## Si3865BDV
designator U?, comment Load Switch with Level-Shift  Part Number: Si3865BDV
Supplier 1: Digi-Key; Supplier Part Number 1: SI3865BDV-T1-E3CT-ND
footprint TSOP95P280X110-6N (TSOP, 6-Leads, Body 3.1x1.7mm (max), Pitch 0.95mm, IPC Medium Density)
pins: 1 R2, 2 D2, 3 D2, 4 S2, 5 ON/OFF, 6 R1C1

## Si6423DQ
designator PMOS?, comment MOSFET P TSSOP8  Part Number: Si6423DQ
Supplier 1: Digi-Key; Supplier Part Number 1: SI6423DQ-T1-E3TR-ND
footprint TSSOP8
pins: 1 D, 2 S, 3 S, 4 G, 5 D, 6 S, 7 S, 8 D

## SJ-3523-SMT
designator JACK?, comment Jack 3.5mm  Part Number: SJ-3523-SMT
Supplier 1: Digi-Key; Supplier Part Number 1: CP-3523SJCT-ND
footprint SJ-3523-SMT (Jack 3.5mm)
pins: 1, 2, 3

## SLF7032T-6R8M1R6-2-PF
designator L?, comment Inductor SLF TDK 6.8uH  Part Number: SLF7032T-6R8M1R6-2-PF
Supplier 1: Digi-Key; Supplier Part Number 1: 445-2013-1-ND
footprint SLF7032T-6R8M1R6-2-PF (Inductor SLF TDK 6.8uH)
pins: 1, 2

## SLS220PC04
designator SW?, comment Switch double pole  Part Number: SLS220PC04
Supplier 1: Digi-Key; Supplier Part Number 1: SLS220PC04-ND
footprint SLS220PC04 (switch TE connectivity Kite/Base v1)
pins: 1 NC1, 2 COMMON1, 3 NO1, 4 NC2, 5 COMMON2, 6 NO2

## SM4007PL-TP
designator D?, comment DIODE SIL 1A 1000V POWERLITE123  Part Number: SM4007PL-TP
Supplier 1: Digi-Key; Supplier Part Number 1: SM4007PL-TPMSCT-ND
footprint SM4007PL-TP (DIODE SIL 1A 1000V POWERLITE123)
pins: A, K

## SMAJ16CA
designator D?, comment Transient Voltatge Suppression Diode  Supplier Part Number 1: SMAJ16CALFCT-ND
Supplier 1: Digi-Key
footprint SMAJ16CA (Transient Voltage Suppression Diode)
pins: 1 A, 2 K

## SN74AHC1G04
designator U?, comment Single Inverter Gate  Part Number: SN74AHC1G04
Supplier 1: Digi-Key; Supplier Part Number 1: 296-1089-1-ND
footprint SOT-353 (SOT-353 package)
pins: 1 NC, 2 A, 3 GND, 4 Y, 5 VCC

## SN74AHC1G126DBVR
designator U?, comment IC BUS BUFF TRI-ST N-INV SOT235  Part Number: SN74AHC1G126DBVR
Supplier 1: Digi-Key; Supplier Part Number 1: 296-8746-1-ND
footprint SOT-23-5
pins: 1 OE, 2 A, 3 GND, 4 Y, 5 VCC

## SN74LVC1G04
designator U?, comment SINGLE INVERTER GATE  Part Number: SN74LVC1G04
Supplier 1: Digi-Key; Supplier Part Number 1: 296-11599-1-ND
footprint SC70P210X110-5N (SC70, 5-Leads, Body 2.4x2.4mm (max), Pitch 0.65mm, IPC Medium Density)
pins: 1 NC, 2 A, 3 GND, 4 Y, 5 VCC

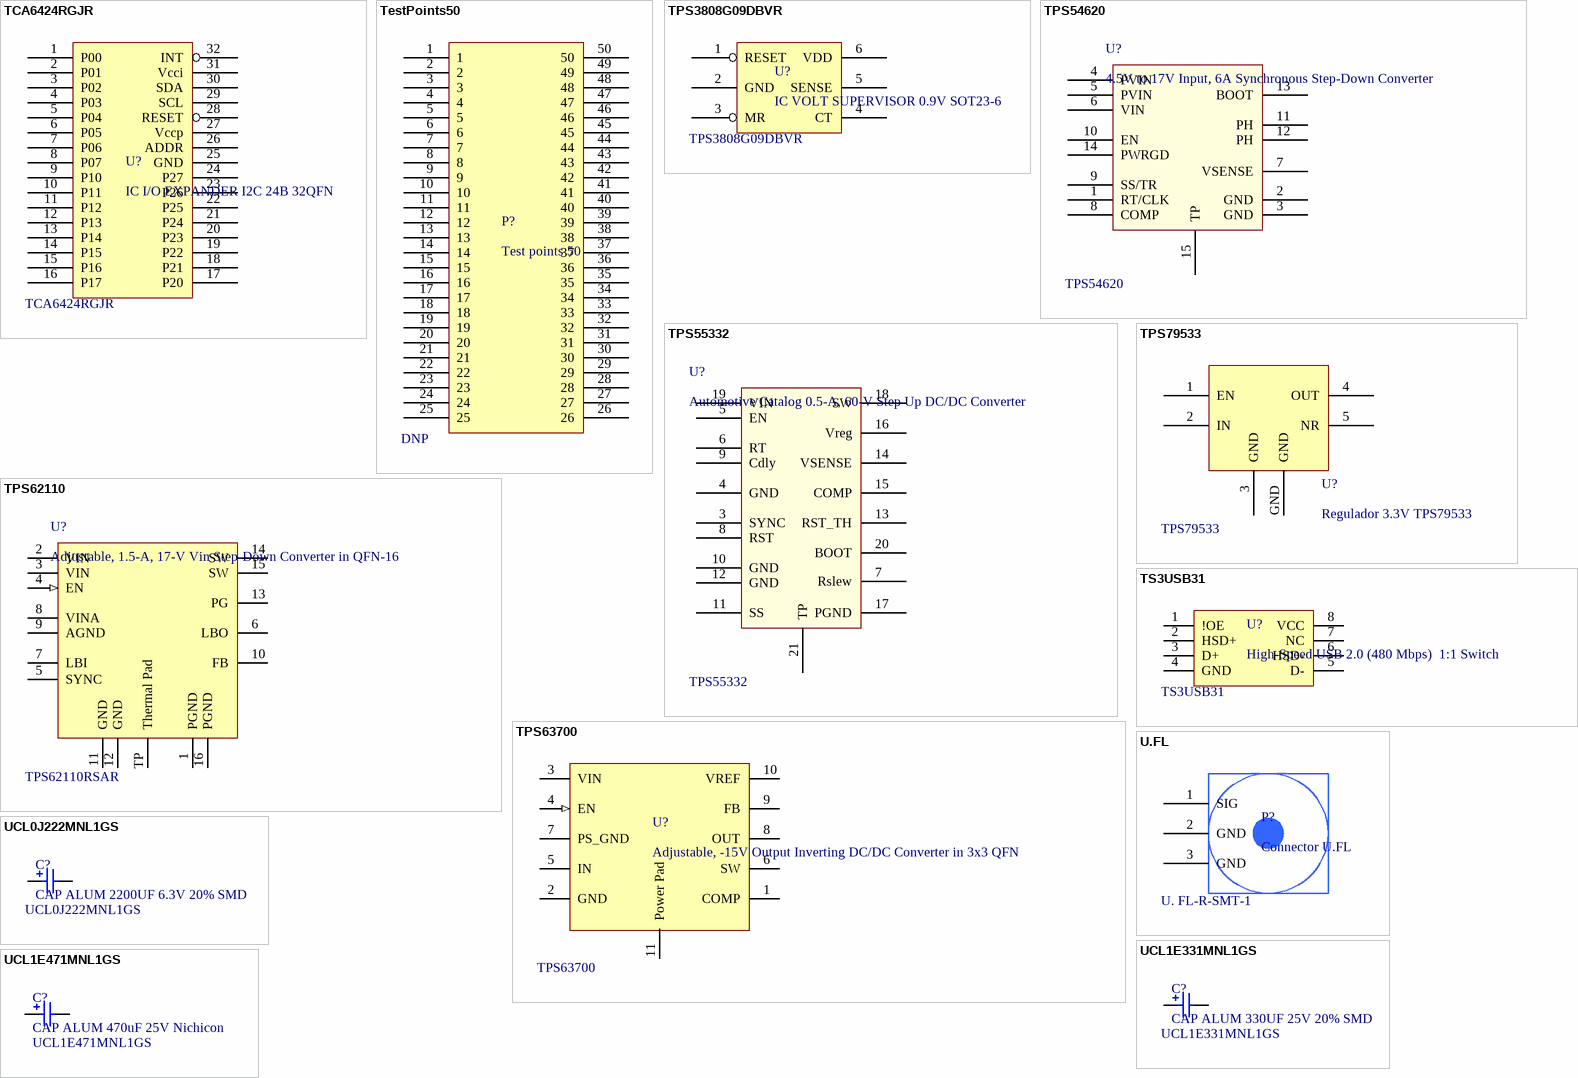
[diagram p4: symbols TCA6424RGJR to UCL1E471MNL1GS]

## TCA6424RGJR
designator U?, comment IC I/O EXPANDER I2C 24B 32QFN  Part Number: TCA6424RGJR
Supplier 1: Digi-Key; Supplier Part Number 1: 296-23306-6-ND
footprint QFN127P600-8N
pins: 1 P00, 2 P01, 3 P02, 4 P03, 5 P04, 6 P05, 7 P06, 8 P07, 9 P10, 10 P11, 11 P12, 12 P13, 13 P14, 14 P15, 15 P16, 16 P17, 17 P20, 18 P21, 19 P22, 20 P23, 21 P24, 22 P25, 23 P26, 24 P27, 25 GND, 26 ADDR, 27 Vccp, 28 RESET, 29 SCL, 30 SDA, 31 Vcci, 32 INT

## TestPoints50
designator P?, comment Test points 50  Part Number: DNP
footprint DIP50_testpoints (test points 1mm hole 2.54mm pitch)
pins: 1, 2, 3, 4, 5, 6, 7, 8, 9, 10, 11, 12, 13, 14, 15, 16, 17, 18, 19, 20, 21, 22, 23, 24, 25, 26, 27, 28, 29, 30, 31, 32, 33, 34, 35, 36, 37, 38, 39, 40, 41, 42, 43, 44, 45, 46, 47, 48, 49, 50

## TPS3808G09DBVR
designator U?, comment IC VOLT SUPERVISOR 0.9V SOT23-6  Part Number: TPS3808G09DBVR
Supplier 1: Digi-Key; Supplier Part Number 1: 296-17189-1-ND
footprint SOT23-6 (SOT23 6 leads package texas instruments)
pins: 1 RESET, 2 GND, 3 MR, 4 CT, 5 SENSE, 6 VDD

## TPS54620
designator U?, comment 4.5V to 17V Input, 6A Synchronous Step-Down Converter  Part Number: TPS54620
Supplier 1: Digi-Key; Supplier Part Number 1: 296-24568-1-ND
footprint TPS54620 (QFN, 14-Leads, Body 3,7x3,7mm (max), Pitch 0,50mm, Pitch1 1,50mm, IPC Medium Density)
pins: 1 RT/CLK, 2 GND, 3 GND, 4 PVIN, 5 PVIN, 6 VIN, 7 VSENSE, 8 COMP, 9 SS/TR, 10 EN, 11 PH, 12 PH, 13 BOOT, 14 PWRGD, 15 TP

## TPS55332
designator U?, comment Automotive Catalog 0.5-A, 60-V Step Up DC/DC Converter  Part Number: TPS55332
Supplier 1: Digi-Key; Supplier Part Number 1: 296-24622-1-ND
footprint TPS55332 (TSOP, 20-Leads, Body 6,5x4,4mm (max), Pitch 0,65mm, IPC Medium Density)
pins: 3 SYNC, 4 GND, 5 EN, 6 RT, 7 Rslew, 8 RST, 9 Cdly, 10 GND, 11 SS, 12 GND, 13 RST_TH, 14 VSENSE, 15 COMP, 16 Vreg, 17 PGND, 18 SW, 19 VIN, 20 BOOT, 21 TP

## TPS62110
designator U?, comment Adjustable, 1.5-A, 17-V Vin Step-Down Converter in QFN-16  Part Number: TPS62110RSAR
Supplier 1: Digi-Key; Supplier Part Number 1: 296-24839-1-ND
footprint TPS62110 (Adjustable, 1.5-A, 17-V Vin Step-Down Converter in QFN-16)
pins: 1 PGND (power), 2 VIN (power), 3 VIN (power), 4 EN (in), 5 SYNC, 6 LBO, 7 LBI, 8 VINA, 9 AGND (power), 10 FB, 11 GND (power), 12 GND (power), 13 PG, 14 SW, 15 SW, 16 PGND (power), TP Thermal Pad (power)

## TPS63700
designator U?, comment Adjustable, -15V Output Inverting DC/DC Converter in 3x3 QFN  Part Number: TPS63700
Supplier 1: Mouser; Supplier Part Number 1: 595-TPS63700DRCT
footprint TPS63700 (Adjustable, -15V Output Inverting DC/DC Converter in 3x3 QFN)
pins: 1 COMP, 2 GND, 3 VIN (power), 4 EN (in), 5 IN (power), 6 SW, 7 PS_GND, 8 OUT, 9 FB, 10 VREF, 11 Power Pad (power)

## TPS79533
designator U?, comment Regulador 3.3V TPS79533  Part Number: TPS79533
Supplier 1: Digi-Key; Supplier Part Number 1: 296-27106-5-ND
footprint tps79533 (regulador 3.3V)
pins: 1 EN, 2 IN, 3 GND, 4 OUT, 5 NR, GND

## TS3USB31
designator U?, comment High-Speed USB 2.0 (480 Mbps)  1:1 Switch  Part Number: TS3USB31
Supplier 1: Digi-Key; Supplier Part Number 1: 296-22548-1-ND
footprint UQFN50P150X150X60-8N (UQFN, 8-Leads, Body 1.5x1.5mm (max), Pitch 0.50mm, IPC Medium Density)
pins: 1 !OE, 2 HSD+, 3 D+, 4 GND, 5 D-, 6 HSD-, 7 NC, 8 VCC

## U.FL
designator P?, comment Connector U.FL  Part Number: U. FL-R-SMT-1
Fabricant: Hirose; Supplier 1: Mouser; Supplier Part Number 1: 798-U.FL-R-SMT-110
footprint U.FL (Connector U.FL)
pins: 1 SIG, 2 GND, 3 GND

## UCL0J222MNL1GS
designator C?, comment CAP ALUM 2200UF 6.3V 20% SMD  Part Number: UCL0J222MNL1GS
Supplier 1: Digi-Key; Supplier Part Number 1: 493-3897-2-ND
footprint UCL0J222MNL1GS (Condensador Nichicon 2200uF)
pins: + 1, - 2

## UCL1E331MNL1GS
designator C?, comment CAP ALUM 330UF 25V 20% SMD  Part Number: UCL1E331MNL1GS
Supplier 1: Digi-Key; Supplier Part Number 1: 493-3943-1-ND
footprint UCL1E331MNL1GS (Condensador Audio Nichicon 330uF)
pins: + 1, - 2

## UCL1E471MNL1GS
designator C?, comment CAP ALUM 470uF 25V Nichicon  Part Number: UCL1E471MNL1GS
Supplier 1: Digi-Key; Supplier Part Number 1: 493-3944-1-ND
footprint UCL1E471MNL1GS (capacitor pol 10.3 x 10.3 13.5 mm height)
pins: + 1, - 2

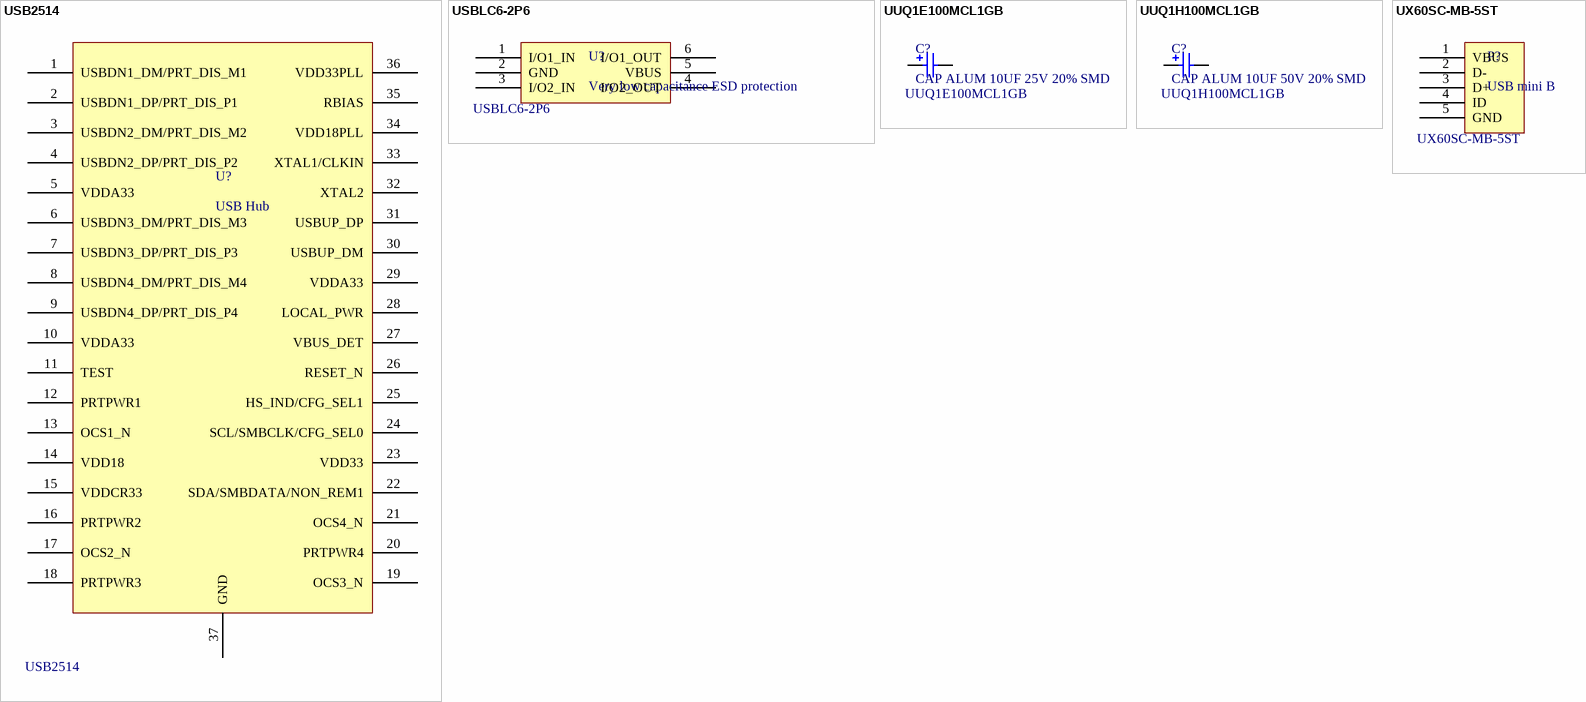
[diagram p5: symbols USB2514 to UX60SC-MB-5ST]

## USB2514
designator U?, comment USB Hub  Part Number: USB2514
Supplier 1: Digi-Key; Supplier Part Number 1: 638-1054-2-ND
footprint QFN50P600X600X100-36N (QFN, 36-Leads, Body 6.2x6.2mm (max), Pitch 0.50mm, IPC Medium Density)
pins: 1 USBDN1_DM/PRT_DIS_M1, 2 USBDN1_DP/PRT_DIS_P1, 3 USBDN2_DM/PRT_DIS_M2, 4 USBDN2_DP/PRT_DIS_P2, 5 VDDA33, 6 USBDN3_DM/PRT_DIS_M3, 7 USBDN3_DP/PRT_DIS_P3, 8 USBDN4_DM/PRT_DIS_M4, 9 USBDN4_DP/PRT_DIS_P4, 10 VDDA33, 11 TEST, 12 PRTPWR1, 13 OCS1_N, 14 VDD18, 15 VDDCR33, 16 PRTPWR2, 17 OCS2_N, 18 PRTPWR3, 19 OCS3_N, 20 PRTPWR4, 21 OCS4_N, 22 SDA/SMBDATA/NON_REM1, 23 VDD33, 24 SCL/SMBCLK/CFG_SEL0, 25 HS_IND/CFG_SEL1, 26 RESET_N, 27 VBUS_DET, 28 LOCAL_PWR, 29 VDDA33, 30 USBUP_DM, 31 USBUP_DP, 32 XTAL2, 33 XTAL1/CLKIN, 34 VDD18PLL, 35 RBIAS, 36 VDD33PLL, 37 GND

## USBLC6-2P6
designator U?, comment Very low capacitance ESD protection  Part Number: USBLC6-2P6
Supplier 1: Digi-Key; Supplier Part Number 1: 497-5026-1-ND
footprint SOT-666 (SOT-666 package)
pins: 1 I/O1_IN, 2 GND, 3 I/O2_IN, 4 I/O2_OUT, 5 VBUS, 6 I/O1_OUT

## UUQ1E100MCL1GB
designator C?, comment CAP ALUM 10UF 25V 20% SMD  Part Number: UUQ1E100MCL1GB
Supplier 1: Digi-Key; Supplier Part Number 1: 493-3202-1-ND
footprint UUQ1E100MCL1GB (Condensador Audio Nichicon 10uF 25V)
pins: + 1, - 2

## UUQ1H100MCL1GB
designator C?, comment CAP ALUM 10UF 50V 20% SMD  Part Number: UUQ1H100MCL1GB
Supplier 1: Digi-Key; Supplier Part Number 1: 493-3208-1-ND
footprint UUQ1H100MCL1GB (Condensador Audio Nichicon 10uF 50V)
pins: + 1, - 2

## UX60SC-MB-5ST
designator P?, comment USB mini B  Part Number: UX60SC-MB-5ST
Supplier 1: Digi-Key; Supplier Part Number 1: H11671CT-ND
footprint UX60SC-MB-5ST (USB mini B)
pins: 1 VBUS, 2 D-, 3 D+, 4 ID, 5 GND